# Altium schematic symbol library STM32F4DISCOVERY.SCHLIB: 52 symbols
Pins are listed as number, name and electrical type; pins without a type are passive.

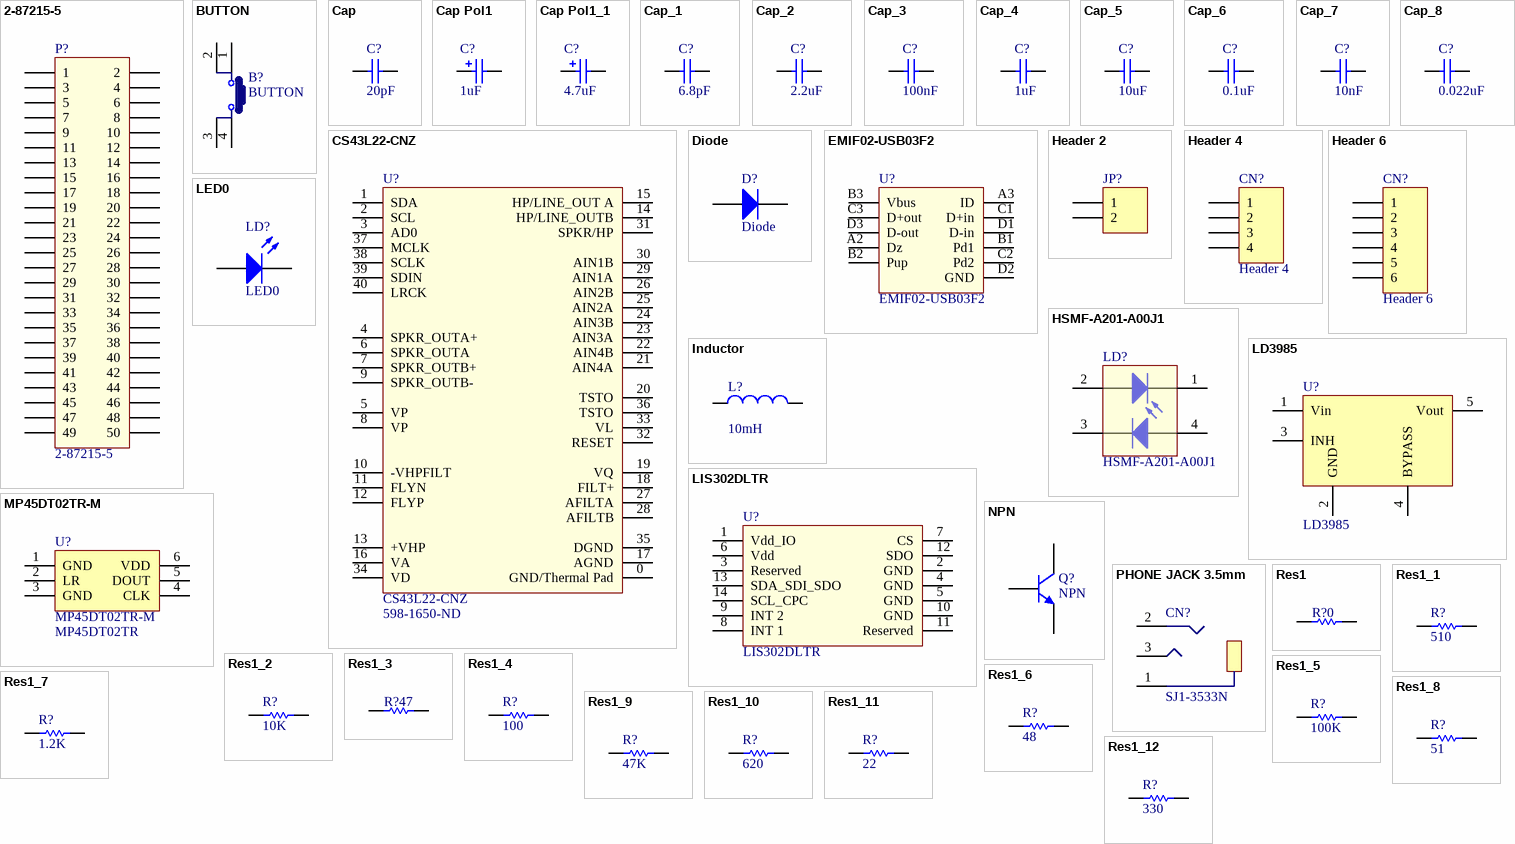
[diagram p0: symbols 2-87215-5 to Res1_12]

## 2-87215-5
designator P?
Manufacturer: TE Connectivity (Tyco Electronics); Catalog Drawings: Dual Square Straight Posts / Dual Straight Posts Side; Featured Product: AMPMODU Connectors; 3D Model: 2-87215-5.pdf; Connector Type: Header, Unshrouded; Number of Positions: 50; Number of Positions Loaded: All; Pitch: 0.100" (2.54mm); Dynamic Catalog: AMPMODU Mod II Series; Mating Products: 2-147424-5-ND / - CONN RCPT 50POS VERT .100 T/H / 2-147104-5-ND / - CONN RCPT 50POS DUAL VERT SMD / 2-146762-6-ND / - CONN RCPT 50POS DL VERT .100 T/H / A32951-ND / - CONN RECEPT 50POS .100 VERT DUAL / 2-147095-5-ND / - CONN RECEPT ASMBLY DBL ROW 50POS / A26470-ND / - CONN RECEPT 50POS .100 VERT DUAL / 2-535542-5-ND / - CONN RECEPT 50POS .100 VERT DUAL / 2-86177-1-ND / - CONN RCPT HSNG 50POS DL CRIMP / A25825-ND / - CONN HOUSING 50POS .100 DUAL ROW / A3045-ND / - CONN HOUSING 50POS .100 DUAL; Other Names: 2-87215-5-ND / A26586; Supplier 1: Digikey; Manufacturer Part Number: 2-87215-5; Stock 1: 100; Pricing 1: 1=16.61, 10=15.422, 25=13.84, 50=13.4448, 100=11.863, 250=11.0721, 500=10.8349, 1000=10.2813 (USD); RoHS Information: 2-87215-5 Statement of Compliance; Standard Package: 100; Category: Connectors, Interconnects; Family: Rectangular Connectors - Headers, Male Pins; Series: AMPMODU Mod II; Contact Type: Male Pin; Number of Rows: 2; Row Spacing: 0.100" (2.54mm); Contact Mating Length: 0.318" (8.08mm); Mounting Type: Through Hole; Termination: Solder; Contact Finish: Gold; Contact Finish Thickness: 30µin (0.76µm); Color: Black; Packaging: Bulk; ComponentLink1URL: https://datasheet.ciiva.com/9478/eng-cs-1307819-section-5-0908-9478390.pdf; ComponentLink1Description: https://datasheet.ciiva.com/9478/eng-cs-1307819-section-5-0908-9478390.pdf; ComponentLink2URL: https://datasheet.ciiva.com/713/eng-cd-87215-j4-713258.pdf; ComponentLink2Description: https://datasheet.ciiva.com/713/eng-cd-87215-j4-713258.pdf
footprint HEADER 25x2
pins: 1, 2, 3, 4, 5, 6, 7, 8, 9, 10, 11, 12, 13, 14, 15, 16, 17, 18, 19, 20, 21, 22, 23, 24, 25, 26, 27, 28, 29, 30, 31, 32, 33, 34, 35, 36, 37, 38, 39, 40, 41, 42, 43, 44, 45, 46, 47, 48, 49, 50

## BUTTON
designator B?
Manufacturer: TE Connectivity (Tyco Electronics); Manufacturer Part Number: 4-1437565-9; Actuator Length: 3.4 mm; Body Orientation: Straight; Actuator Style: Round Button; Electrical Life: 100000 Cycle; Dielectric Strength: 500 VAC; Contact Rating @ Voltage: 0.05@12VDC A; Maximum DC Voltage Rating: 12 V; Illumination Type: N/R; Maximum Contact Resistance: 100 mOhm; Operating Force: 1.57 N; Actuation Force: 1.6 N; Supplier 1: RSComponents; Stock 1: 850; Actuator Color: N/A; Contact Material: Copper Alloy; Base Material: N/A; Family: FSMJSMA; Contact Plating: Silver; Ground Terminal: N/A; Housing Material: N/A; Dimension: 6 x 10 x 7.25 mm; Part No: 4-1437565-9; RoHS: Yes; Maximum AC Voltage Rating: N/A; Seal Description: N/A; Pole Throw Configuration: N/A; Mechanical Life: N/A; Packaging: Bulk; Product Weight: N/A; Mounting: Surface Mount,Gull Wing; Minimum Insulation Resistance: 100 MOhm; Operating Temperature: -20 to 85 C; Type: N/A; Switch Configuration: N/A; Seal Location: N/A; ComponentLink1URL: https://datasheet.ciiva.com/8164/eng-cs-1308111-1-switches-core-program-catalog-0308-8164805.pdf; ComponentLink1Description: https://datasheet.ciiva.com/8164/eng-cs-1308111-1-switches-core-program-catalog-0308-8164805.pdf; ComponentLink2URL: https://datasheet.ciiva.com/8082/eng-cs-1308111-1-switches-core-program-catalog-0308-8082679.pdf; ComponentLink2Description: https://datasheet.ciiva.com/8082/eng-cs-1308111-1-switches-core-program-catalog-0308-8082679.pdf; ComponentLink3URL: https://datasheet.ciiva.com/16535/eng-cs-1308111-1-switches-core-program-catalog-0308-16535272.pdf; ComponentLink3Description: https://datasheet.ciiva.com/16535/eng-cs-1308111-1-switches-core-program-catalog-0308-16535272.pdf; Supplier 2: Mouser; Stock 2: 6488; Pricing 2: 1=0.39, 10=0.381, 50=0.354, 100=0.34, 1000=0.272, 10000=0.204 (USD); Size: 6 x 6 mm; Termination Style: Gull Wing; ComponentLink4URL: https://datasheet.ciiva.com/16156/p010593-16156341.pdf; ComponentLink4Description: https://datasheet.ciiva.com/16156/p010593-16156341.pdf; ComponentLink5URL: https://datasheet.ciiva.com/2900/tl3301-2900813.pdf; ComponentLink5Description: https://datasheet.ciiva.com/2900/tl3301-2900813.pdf; ComponentLink6URL: https://datasheet.ciiva.com/2900/tl3301-2900814.pdf; ComponentLink6Description: https://datasheet.ciiva.com/2900/tl3301-2900814.pdf; ComponentLink7URL: https://datasheet.ciiva.com/2900/tl3301-2900815.pdf; ComponentLink7Description: https://datasheet.ciiva.com/2900/tl3301-2900815.pdf
footprint TL3301PF160QG
pins: 1, 2, 3, 4

## Cap
designator C?  value 20pF  (hidden comment: Cap)
Capacitor; Published: 8-Jun-2000; LatestRevisionDate: 17-Jul-2002; LatestRevisionNote: Re-released for DXP Platform.; PackageReference: RAD-0.3; Publisher: Altium Limited; PackageDescription: Radial Cap, Thru-Hole; 2 Leads; 0.3 in Pin Spacing
simulation model CAP (Capacitor)
signal-integrity model Cap
footprint CAPC0603B (Chip Capacitor, 2-Leads, Body 1.60x0.80mm, IPC Medium Density)
pins: 1, 2

## Cap Pol1
designator C?  value 1uF  (hidden comment: Cap Pol1)
Polarized Capacitor (Radial); Published: 8-Jun-2000; LatestRevisionDate: 17-Jul-2002; LatestRevisionNote: Re-released for DXP Platform.; PackageReference: RB7.6-15; Publisher: Altium Limited; PackageDescription: Polarized Capacitor (Radial); 2 Leads
footprint TANTALUM CASE A_LEVEL B (Molded Capacitor, 2-Leads, Body 3.20x1.60mm, IPC Medium Density)
pins: 1, 2
1 alternate drawing of the same symbol

## Cap Pol1_1
designator C?, comment value 4.7uF  (hidden comment: Cap Pol1)
Polarized Capacitor (Radial); Published: 8-Jun-2000; LatestRevisionDate: 17-Jul-2002; LatestRevisionNote: Re-released for DXP Platform.; PackageReference: RB7.6-15; Publisher: Altium Limited; PackageDescription: Polarized Capacitor (Radial); 2 Leads
footprint TANTALUM CASE A_LEVEL B (Molded Capacitor, 2-Leads, Body 3.20x1.60mm, IPC Medium Density)
pins: 1, 2
1 alternate drawing of the same symbol

## Cap_1
designator C?, comment value 6.8pF  (hidden comment: Cap)
Capacitor; Published: 8-Jun-2000; LatestRevisionDate: 17-Jul-2002; LatestRevisionNote: Re-released for DXP Platform.; PackageReference: RAD-0.3; Publisher: Altium Limited; PackageDescription: Radial Cap, Thru-Hole; 2 Leads; 0.3 in Pin Spacing
simulation model CAP (Capacitor)
signal-integrity model Cap
footprint CAPC0603B (Chip Capacitor, 2-Leads, Body 1.60x0.80mm, IPC Medium Density)
pins: 1, 2

## Cap_2
designator C?, comment value 2.2uF  (hidden comment: Cap)
Capacitor; Published: 8-Jun-2000; LatestRevisionDate: 17-Jul-2002; LatestRevisionNote: Re-released for DXP Platform.; PackageReference: RAD-0.3; Publisher: Altium Limited; PackageDescription: Radial Cap, Thru-Hole; 2 Leads; 0.3 in Pin Spacing
simulation model CAP (Capacitor)
signal-integrity model Cap
footprint CAPC0603B (Chip Capacitor, 2-Leads, Body 1.60x0.80mm, IPC Medium Density)
pins: 1, 2

## Cap_3
designator C?, comment value 100nF  (hidden comment: Cap)
Capacitor; Published: 8-Jun-2000; LatestRevisionDate: 17-Jul-2002; LatestRevisionNote: Re-released for DXP Platform.; PackageReference: RAD-0.3; Publisher: Altium Limited; PackageDescription: Radial Cap, Thru-Hole; 2 Leads; 0.3 in Pin Spacing
simulation model CAP (Capacitor)
signal-integrity model Cap
footprint CAPC0603B (Chip Capacitor, 2-Leads, Body 1.60x0.80mm, IPC Medium Density)
pins: 1, 2

## Cap_4
designator C?, comment value 1uF  (hidden comment: Cap)
Capacitor; Published: 8-Jun-2000; LatestRevisionDate: 17-Jul-2002; LatestRevisionNote: Re-released for DXP Platform.; PackageReference: RAD-0.3; Publisher: Altium Limited; PackageDescription: Radial Cap, Thru-Hole; 2 Leads; 0.3 in Pin Spacing
simulation model CAP (Capacitor)
signal-integrity model Cap
footprint CAPC0603B (Chip Capacitor, 2-Leads, Body 1.60x0.80mm, IPC Medium Density)
pins: 1, 2

## Cap_5
designator C?, comment value 10uF  (hidden comment: Cap)
Capacitor; Published: 8-Jun-2000; LatestRevisionDate: 17-Jul-2002; LatestRevisionNote: Re-released for DXP Platform.; PackageReference: RAD-0.3; Publisher: Altium Limited; PackageDescription: Radial Cap, Thru-Hole; 2 Leads; 0.3 in Pin Spacing
simulation model CAP (Capacitor)
signal-integrity model Cap
footprint CAPC0402B (Chip Capacitor, 2-Leads, Body 1.00x0.50mm, IPC Medium Density)
pins: 1, 2

## Cap_6
designator C?, comment value 0.1uF  (hidden comment: Cap)
Capacitor; Published: 8-Jun-2000; LatestRevisionDate: 17-Jul-2002; LatestRevisionNote: Re-released for DXP Platform.; PackageReference: RAD-0.3; Publisher: Altium Limited; PackageDescription: Radial Cap, Thru-Hole; 2 Leads; 0.3 in Pin Spacing
footprint CAPC0402B (Chip Capacitor, 2-Leads, Body 1.00x0.50mm, IPC Medium Density)
pins: 1, 2

## Cap_7
designator C?, comment value 10nF  (hidden comment: Cap)
Capacitor; Published: 8-Jun-2000; LatestRevisionDate: 17-Jul-2002; LatestRevisionNote: Re-released for DXP Platform.; PackageReference: RAD-0.3; Publisher: Altium Limited; PackageDescription: Radial Cap, Thru-Hole; 2 Leads; 0.3 in Pin Spacing
simulation model CAP (Capacitor)
signal-integrity model Cap
footprint CAPC0402B (Chip Capacitor, 2-Leads, Body 1.00x0.50mm, IPC Medium Density)
pins: 1, 2

## Cap_8
designator C?, comment value 0.022uF  (hidden comment: Cap)
Capacitor; Published: 8-Jun-2000; LatestRevisionDate: 17-Jul-2002; LatestRevisionNote: Re-released for DXP Platform.; PackageReference: RAD-0.3; Publisher: Altium Limited; PackageDescription: Radial Cap, Thru-Hole; 2 Leads; 0.3 in Pin Spacing
simulation model CAP (Capacitor)
signal-integrity model Cap
footprint CAPC0402B (Chip Capacitor, 2-Leads, Body 1.00x0.50mm, IPC Medium Density)
pins: 1, 2

## CS43L22-CNZ
designator U?  Supplier Part Number 1: 598-1650-ND
Manufacturer: Cirrus Logic; PCN Assembly/Origin: Assembly/Test Supplier Transfer 06/Feb/2014 Assembly/Test Site Transfer Jun/2014 Assembly/Test Site Revision 01/Aug/2014; EDA / CAD Models: Download from Accelerated Designs; Resolution (Bits): 24 b; Sampling Rate (Per Second): 96k; Data Interface: I²S; Voltage Supply Source: Analog and Digital; Voltage - Supply: 1.65 V ~ 2.63 V; Online Catalog: Audio, Video; For Use With: 598-1529-ND                                                          - BOARD EVAL FOR CS43L22; Other Names: 598-1650  CS43L22CNZ; Supplier 1: Digikey; Manufacturer Part Number: CS43L22-CNZ; Stock 1: 3643; Pricing 1: 1=5.96, 10=5.325, 25=4.7924, 100=4.3665, 250=3.9405, 500=3.5358, 1000=2.982, 2500=2.8329 (USD); Standard Package: 50; Category: Integrated Circuits (ICs); Family: Data Acquisition - ADCs/DACs - Special Purpose; Series: -; Packaging: Tray; Type: DAC, Audio; Operating Temperature: -40°C ~ 85°C; Mounting Type: Surface Mount; Package / Case: 40-VFQFN Exposed Pad; Supplier Device Package: 40-QFN (6x6); ComponentLink1URL: https://datasheet.ciiva.com/1494/91818-1494314.pdf; ComponentLink1Description: https://datasheet.ciiva.com/1494/91818-1494314.pdf; ComponentLink2URL: https://datasheet.ciiva.com/6665/cs43l22-f2-6665692.pdf; ComponentLink2Description: https://datasheet.ciiva.com/6665/cs43l22-f2-6665692.pdf; ComponentLink3URL: https://datasheet.ciiva.com/3040/cs43l22-f2-3040429.pdf; ComponentLink3Description: https://datasheet.ciiva.com/3040/cs43l22-f2-3040429.pdf; ComponentLink4URL: https://datasheet.ciiva.com/16606/cs43l22-f2-16606863.pdf; ComponentLink4Description: https://datasheet.ciiva.com/16606/cs43l22-f2-16606863.pdf; ComponentLink5URL: https://datasheet.ciiva.com/26802/cs43l22-cnz-26802243.pdf; ComponentLink5Description: https://datasheet.ciiva.com/26802/cs43l22-cnz-26802243.pdf
footprint 40QFN (PQFN, 40-Leads, Body 6.00x6.00mm, Pitch 0.50mm, Thermal Pad 4.10x4.10mm, IPC Medium Density)
pins: 0 GND/Thermal Pad, 1 SDA, 2 SCL, 3 AD0, 4 SPKR_OUTA+, 5 VP, 6 SPKR_OUTA, 7 SPKR_OUTB+, 8 VP, 9 SPKR_OUTB-, 10 -VHPFILT, 11 FLYN, 12 FLYP, 13 +VHP, 14 HP/LINE_OUTB, 15 HP/LINE_OUT A, 16 VA, 17 AGND, 18 FILT+, 19 VQ, 20 TSTO, 21 AIN4A, 22 AIN4B, 23 AIN3A, 24 AIN3B, 25 AIN2A, 26 AIN2B, 27 AFILTA, 28 AFILTB, 29 AIN1A, 30 AIN1B, 31 SPKR/HP, 32 RESET, 33 VL, 34 VD, 35 DGND, 36 TSTO, 37 MCLK, 38 SCLK, 39 SDIN, 40 LRCK

## Diode
designator D?
Default Diode; Published: 8-Jun-2000; LatestRevisionDate: 17-Jul-2002; LatestRevisionNote: Re-released for DXP Platform.; PackageVersion: Sep-1996; PackageReference: SMC; Publisher: Altium Limited; PackageDescription: DO-214-AB/SMC; 2 C-Bend Leads; Body 7.9 x 5.9 mm, inc. leads (LxW); Code_JEDEC: DO-214-AB
footprint SOD-323
simulation model DIODE (Diode)
signal-integrity model Diode
pins: 1 A, 2 K

## EMIF02-USB03F2
designator U?
Manufacturer: STMicroelectronics; Other Related Documents: EMIF02-USB03F2 View All Specifications; Number of Channels: 2; Resistance - Channel (Ohms): 33; Values: R = 33 Ohms, C = 20pF; ESD Protection: Yes; Filter Order: 2nd; Online Catalog: IPAD™ Series; Other Names: 497-13521-2 EMIF02USB03F2; Supplier 1: Digikey; Manufacturer Part Number: EMIF02-USB03F2; Stock 1: 5836; Pricing 1: 1=0.68, 10=0.644, 100=0.4574, 500=0.395, 1000=0.3534 (USD); Standard Package: 5,000; Category: Filters; Family: EMI/RFI Filters (LC, RC Networks); Series: EMIF; Packaging: Tape & Reel (TR); Type: Low Pass; Technology: RC (Pi); Center / Cutoff Frequency: -; Attenuation Value: -; Current: -; Applications: USB; Package / Case: 11-WFBGA, FCBGA; Size / Dimension: 0.076" L x 0.057" W (1.94mm x 1.44mm); Height: 0.028" (0.72mm); Operating Temperature: -40°C ~ 85°C; ComponentLink1URL: https://datasheet.ciiva.com/3068/cd00042880-3068450.pdf; ComponentLink1Description: https://datasheet.ciiva.com/3068/cd00042880-3068450.pdf; ComponentLink2URL: https://datasheet.ciiva.com/12394/cd00042880-211729-12394966.pdf; ComponentLink2Description: https://datasheet.ciiva.com/12394/cd00042880-211729-12394966.pdf; ComponentLink3URL: https://datasheet.ciiva.com/16633/cd00042880-16633017.pdf; ComponentLink3Description: https://datasheet.ciiva.com/16633/cd00042880-16633017.pdf
footprint EMIF02-USB03F2 (EMIF02-USB03F2 footprint)
pins: A2 Dz, A3 ID, B1 Pd1, B2 Pup, B3 Vbus, C1 D+in, C2 Pd2, C3 D+out, D1 D-in, D2 GND, D3 D-out

## Header 2
designator JP?  (value not drawn)
Header, 2-Pin; LatestRevisionDate: 17-Jul-2002; LatestRevisionNote: Re-released for DXP Platform.; Publisher: Altium Limited
footprint HDR1X2 (Connector; Header; 2 Position)
signal-integrity model Connector
pins: 1, 2

## Header 4
designator CN?
Header, 4-Pin; LatestRevisionDate: 17-Jul-2002; LatestRevisionNote: Re-released for DXP Platform.; Publisher: Altium Limited
footprint HDR1X4 (Connector; Header; 4 Position)
signal-integrity model Connector
pins: 1, 2, 3, 4

## Header 6
designator CN?
Header, 6-Pin; LatestRevisionDate: 17-Jul-2002; LatestRevisionNote: Re-released for DXP Platform.; Publisher: Altium Limited
footprint HDR1X6 (Connector; Header; 6 Position)
signal-integrity model Connector
pins: 1, 2, 3, 4, 5, 6

## HSMF-A201-A00J1
designator LD?
Manufacturer: Broadcom / Avago Technologies; Chip Material: GaP; DELETED: Compliant; Emitting Color: Red/Yellow Green; Forward Voltage: 2.6 V; Forward Current: 30/20 mA; Dominant Wave Length: 626/569 nm; Lum Intensity: 16/20mcd; High Brightness: No; Number of  Elements: 2; Main Category: Chip LED; Power Dissipation: 78/48 W; Peak Wavelength: 635/565 nm; Shape Type: Circular; Type: Bi-Color; Reverse Voltage: 5 V; Viewing Angle: 120 deg; Test Current (It): 20 mA; Product Depth (mm): 3.2 mm; Product Height (mm): 1.8 mm; Product Length (mm): 2.8 mm; Supplier 1: Digikey; Manufacturer Part Number: HSMF-A201-A00J1; Stock 1: 460; Pricing 1: 1=0.61, 10=0.472, 25=0.3932, 100=0.3388, 250=0.3025, 500=0.2602, 1000=0.2009 (USD); Mounting: Surface Mount; Operating Temp Range: -55C to 100C; Lens Dimensions: 2.2x2.2x0.8 mm; Luminous Intensity: 16/20mcd; Package Type: PLCC; Packaging: Tape and Reel; Pin Count: 4; Operating Temperature Classification: Industrial; Rad Hardened: No; ComponentLink1URL: https://datasheet.ciiva.com/29280/180547-da-01-en-plcc-4-led-hsmf-a201-a00j1-gelb-gruen-29280722.pdf; ComponentLink1Description: https://datasheet.ciiva.com/29280/180547-da-01-en-plcc-4-led-hsmf-a201-a00j1-gelb-gruen-29280722.pdf; ComponentLink2URL: https://datasheet.ciiva.com/11775/0900766b804ebe6b-11775846.pdf; ComponentLink2Description: https://datasheet.ciiva.com/11775/0900766b804ebe6b-11775846.pdf; ComponentLink3URL: https://datasheet.ciiva.com/4688/v02-0501en+ds+hsmx-a2xx+02feb2012-107193-4688327.pdf; ComponentLink3Description: https://datasheet.ciiva.com/4688/v02-0501en+ds+hsmx-a2xx+02feb2012-107193-4688327.pdf; ComponentLink4URL: https://datasheet.ciiva.com/15117/getdatasheetpartid-135296-15117690.pdf; ComponentLink4Description: https://datasheet.ciiva.com/15117/getdatasheetpartid-135296-15117690.pdf
footprint HSMF-A201-A00J1
pins: 1 A, 1 A, 1, 2 K, 2 K, 2, 3, 4

## Inductor
designator L?  value 10mH  (hidden comment: Inductor)
Code_IEC: 1005; Published: 8-Jun-2000; LatestRevisionDate: 29-May-2009; LatestRevisionNote: IPC-7351 Footprint Added.; PackageReference: 0402-A; Publisher: Altium Limited; PackageDescription: Chip Inductor; Code_JEITA: 0402
footprint 0402-A (Chip Inductor, Body 1.0x0.5mm, IPC High Density)
footprint INDC1608L (Chip Inductor, Body 1.6x0.8mm, IPC High Density)
footprint 2029 (Chip Inductor, Body 2.0x1.2mm, IPC High Density)
footprint 0603 (Chip Inductor, Body 0.6x0.3mm, IPC High Density)
footprint INDC3216 (Chip Inductor, Body 3.2x1.6mm, IPC High Density)
footprint INDC4532 (Chip Inductor, Body 4.5x3.2mm, IPC High Density)
simulation model INDUCTOR (Inductor)
signal-integrity model Inductor
pins: 1, 2

## LD3985
designator U?
Manufacturer: STMicroelectronics; Manufacturer Part Number: LD3985G33R; Other Related Documents: LD3985XX33 View All Specifications LD3985XX33 View All Specifications; EDA / CAD Models: Download from Accelerated Designs; Regulator Topology: Positive Fixed; Voltage - Output: 3.3V; Current - Output: 150mA; Voltage - Dropout (Typical): 0.06V @ 150mA; Number of Regulators: 1; Voltage - Input: Up to 6V; Current - Limit (Min): 300mA; Other Names: 497-7793-6; Supplier 1: Digikey; Stock 1: 937; Pricing 1: 1=0.65, 10=0.574, 100=0.4404, 500=0.3481 (USD); Standard Package: 1; Category: Integrated Circuits (ICs); Family: PMIC - Voltage Regulators - Linear; Series: -; Packaging: Digi-Reel®; Operating Temperature: -40°C ~ 125°C; Mounting Type: Surface Mount; Package / Case: SOT-23-5 Thin, TSOT-23-5; Supplier Device Package: TSOT-23-5; ComponentLink1URL: https://datasheet.ciiva.com/2053/cd00003395-2053393.pdf; ComponentLink1Description: https://datasheet.ciiva.com/2053/cd00003395-2053393.pdf; ComponentLink2URL: https://datasheet.ciiva.com/2053/cd00003395-2053394.pdf; ComponentLink2Description: https://datasheet.ciiva.com/2053/cd00003395-2053394.pdf; ComponentLink3URL: https://datasheet.ciiva.com/2053/cd00003395-2053395.pdf; ComponentLink3Description: https://datasheet.ciiva.com/2053/cd00003395-2053395.pdf
footprint TSOT-23-5
pins: 1 Vin, 2 GND, 3 INH, 4 BYPASS, 5 Vout

## LED0
designator LD?
Typical INFRARED GaAs LED; Published: 8-Jun-2000; LatestRevisionDate: 08-Jul-2005; LatestRevisionNote: Mech Layer 1 removed.; PackageReference: LED-0; Publisher: Altium Limited; PackageDescription: LED; 2 Leads
simulation model LED0 (Diode)
footprint LED_0603
pins: 1 A, 2 K

## LIS302DLTR
designator U?
Manufacturer: STMicroelectronics; Other Related Documents: LIS302DL View All Specifications; EDA / CAD Models: Download from Accelerated Designs; Axis: X, Y, Z; Acceleration Range: ±2.3g, 9.2g; Sensitivity: 18mg/digit, 72mg/digit; Voltage - Supply: 2.16 V ~ 3.6 V; Output Type: Digital; Bandwidth: 100Hz ~ 400Hz Selectable; Interface: I²C, SPI; Online Catalog: MEMS "piccolo" LIS302DL, LIS352AR and LIS352AX; For Use With: 497-6342-ND  - BOARD EVALUATION FOR LIS302DL 497-6227-ND  - BOARD ADAPTER 20DIP LIS3LV02DL 497-8204-ND  - BOARD ADAPTER LIS302SG DIL24 497-8373-ND  - BOARD EVAL EXTENSION SN250 497-6226-ND  - BOARD EVAL ACCELEROM LIS3LV02DL 497-6246-ND  - BOARD EVAL ACCELEROM LIS302ALK 497-8203-ND  - BOARD DEMO LIS302SG 497-9047-ND  - BOARD DEMO ACCELEROMETER DIL24; Other Names: 497-5911-2; Supplier 1: Digikey; Manufacturer Part Number: LIS302DLTR; Stock 1: 0; Pricing 1: 1=2.99, 10=2.682, 100=2.1973, 500=1.8705 (USD); Standard Package: 5,000; Category: Sensors, Transducers; Family: Accelerometers; Series: MEMS, piccolo; Packaging: Tape & Reel (TR); Mounting Type: Surface Mount; Package / Case: 14-VFLGA; Supplier Device Package: 14-LGA (3x5); ComponentLink1URL: https://datasheet.ciiva.com/2809/cd00135460-2809829.pdf; ComponentLink1Description: https://datasheet.ciiva.com/2809/cd00135460-2809829.pdf; ComponentLink2URL: https://datasheet.ciiva.com/5296/cd00135460-98938-5296661.pdf; ComponentLink2Description: https://datasheet.ciiva.com/5296/cd00135460-98938-5296661.pdf; ComponentLink3URL: https://datasheet.ciiva.com/2809/cd00135460-2809830.pdf; ComponentLink3Description: https://datasheet.ciiva.com/2809/cd00135460-2809830.pdf; ComponentLink4URL: https://datasheet.ciiva.com/2809/cd00135460-2809831.pdf; ComponentLink4Description: https://datasheet.ciiva.com/2809/cd00135460-2809831.pdf; ComponentLink5URL: https://datasheet.ciiva.com/3271/cd00135460-3271564.pdf; ComponentLink5Description: https://datasheet.ciiva.com/3271/cd00135460-3271564.pdf; ComponentLink6URL: https://datasheet.ciiva.com/26928/lis302dltr-26928596.pdf; ComponentLink6Description: https://datasheet.ciiva.com/26928/lis302dltr-26928596.pdf
footprint LIS302DLTR
pins: 1 Vdd_IO, 2 GND, 3 Reserved, 4 GND, 5 GND, 6 Vdd, 7 CS, 8 INT 1, 9 INT 2, 10 GND, 11 Reserved, 12 SDO, 13 SDA_SDI_SDO, 14 SCL_CPC

## MP45DT02TR-M
designator U?  Supplier Part Number 1: MP45DT02TR
Manufacturer: STMicroelectronics; Other Related Documents: MP45DT02 View All Specifications; Product Training Modules: Digital MEMS Microphones – Part 2; Output Type: Digital, PDM; Direction: Omnidirectional; Frequency Range: 100Hz ~ 10kHz; Sensitivity: -26dB ±3dB @ 94dB SPL; S/N Ratio: 61dB; Voltage - Rated: 1.64 ~ 3.6V; Current - Supply: 650µA; Port Location: Top; Seal Rating: None; Shape: Rectangular; Online Catalog: MP Series; For Use With: 497-13608-ND / - BOARD EVAL FOR MP45DT02 / 497-13324-ND / - BOARD EVAL MEMS MIC MP45DT02 / 497-14895-ND / - EVAL BOARD MEMS MIC MP45DT02 / 497-13230-ND / - BOARD EVAL MEMS MIC MP45DT02; Other Names: 497-11921-1; Supplier 1: Arrow; Manufacturer Part Number: MP45DT02TR; Stock 1: 4000; Pricing 1: 1=0.778 (EUR); Standard Package: 1; Category: Audio Products; Family: Microphones; Packaging: Cut Tape (CT); Type: MEMS (Silicon); Termination: Solder Pads; Size / Dimension: 4.72mm L x 3.76mm W; Height (Max): 1.38mm; ComponentLink1URL: https://datasheet.ciiva.com/2/dm00025467-2000.pdf; ComponentLink1Description: https://datasheet.ciiva.com/2/dm00025467-2000.pdf; ComponentLink2URL: https://datasheet.ciiva.com/2/dm00025467-2001.pdf; ComponentLink2Description: https://datasheet.ciiva.com/2/dm00025467-2001.pdf; ComponentLink3URL: https://datasheet.ciiva.com/16214/dm00025467-16214947.pdf; ComponentLink3Description: https://datasheet.ciiva.com/16214/dm00025467-16214947.pdf; ComponentLink4URL: https://datasheet.ciiva.com/16636/dm00025467-16636155.pdf; ComponentLink4Description: https://datasheet.ciiva.com/16636/dm00025467-16636155.pdf; ComponentLink5URL: https://datasheet.ciiva.com/1/dm00025467-1999.pdf; ComponentLink5Description: https://datasheet.ciiva.com/1/dm00025467-1999.pdf; ComponentLink6URL: https://datasheet.ciiva.com/12072/dm00025467-12072527.pdf; ComponentLink6Description: https://datasheet.ciiva.com/12072/dm00025467-12072527.pdf
footprint MP45DT02TR-M
pins: 1 GND, 2 LR, 3 GND, 4 CLK, 5 DOUT, 6 VDD

## NPN
designator Q?
NPN Bipolar Transistor; Published: 8-Jun-2000; LatestRevisionDate: 17-Jul-2002; LatestRevisionNote: Re-released for DXP Platform.; PackageReference: TO-226-AA; Publisher: Altium Limited; PackageDescription: TO, Flat Index; 3 In-Line, Axial Leads; Body Dia. 4.8mm; Leads 0.55 x 0.51 mm (max); Code_JEDEC: TO-226-AA
footprint SOT-23 (SOTFL, 3-Leads, Body 1.60x1.60mm, Pitch 0.50mm, IPC Medium Density)
pins: 1 C, 2 B, 3 E

## PHONE JACK 3.5mm
designator CN?, comment SJ1-3533N
3.50mm (0.141", 1/8", Mini Plug) - Headphone Phone Jack Stereo Connector Solder; Manufacturer: CUI; Gender: Female; Actual Diameter: 0.142" (3.60mm); Number of Positions/Contacts: 3 Conductors, 3 Contacts; Internal Switch(s): Does Not Contain Switch; Shielding: Unshielded; Voltage - Rated: 12VDC; Current Rating: 1A; Mating Length/Depth: 0.551" (14.00mm); Body Material: Brass; Body Color: Silver, Black; Includes: 1 pc - 1 Connector; Supplier 1: Digikey; Manufacturer Part Number: SJ1-3533N; Stock 1: 8782; Pricing 1: 1=1.22, 10=1.076, 25=1.0128, 50=0.9706, 100=0.9284, 250=0.844, 500=0.7596, 1000=0.6752, 2500=0.6119 (USD); Category: Connectors, Interconnects; Family: Barrel - Audio Connectors; Series: SJ1; Packaging: Bulk; Connector Type: Phone Jack; Signal Lines: Stereo; Industry Recognized Mating Diameter: 3.50mm (0.141", 1/8", Mini Plug) - Headphone; Mounting Type: Through Hole, Right Angle; Termination: Solder; Features: -; Insulation Color: -; Contact Material - Plating: Tin; ComponentLink1URL: https://datasheet.ciiva.com/16381/sj1-353xn-series-16381818.pdf; ComponentLink1Description: https://datasheet.ciiva.com/16381/sj1-353xn-series-16381818.pdf
footprint SJ1-3533N (3.50mm (0.141", 1/8", Mini Plug) - Headphone Phone Jack Stereo Connector Solder)
pins: 1, 2, 3

## Res1
designator R?  value 0  (hidden comment: Res1)
Resistor; Published: 8-Jun-2000; LatestRevisionDate: 17-Jul-2002; LatestRevisionNote: Re-released for DXP Platform.; PackageReference: AXIAL-0.3; Publisher: Altium Limited; PackageDescription: Axial Device, Thru-Hole; 2 Leads; 0.3 in Pin Spacing
simulation model RESISTOR (Resistor)
signal-integrity model Res
footprint RESC0603B (Chip Resistor, 2-Leads, Body 1.60x0.82mm, IPC Medium Density)
pins: 1, 2

## Res1_1
designator R?, comment value 510  (hidden comment: Res1)
Resistor; Published: 8-Jun-2000; LatestRevisionDate: 17-Jul-2002; LatestRevisionNote: Re-released for DXP Platform.; PackageReference: AXIAL-0.3; Publisher: Altium Limited; PackageDescription: Axial Device, Thru-Hole; 2 Leads; 0.3 in Pin Spacing
simulation model RESISTOR (Resistor)
signal-integrity model Res
footprint RESC0603B (Chip Resistor, 2-Leads, Body 1.60x0.82mm, IPC Medium Density)
pins: 1, 2

## Res1_2
designator R?, comment value 10K  (hidden comment: Res1)
Resistor; Published: 8-Jun-2000; LatestRevisionDate: 17-Jul-2002; LatestRevisionNote: Re-released for DXP Platform.; PackageReference: AXIAL-0.3; Publisher: Altium Limited; PackageDescription: Axial Device, Thru-Hole; 2 Leads; 0.3 in Pin Spacing
simulation model RESISTOR (Resistor)
signal-integrity model Res
footprint RESC0603B (Chip Resistor, 2-Leads, Body 1.60x0.82mm, IPC Medium Density)
pins: 1, 2

## Res1_3
designator R?, comment value 47  (hidden comment: Res1)
Resistor; Published: 8-Jun-2000; LatestRevisionDate: 17-Jul-2002; LatestRevisionNote: Re-released for DXP Platform.; PackageReference: AXIAL-0.3; Publisher: Altium Limited; PackageDescription: Axial Device, Thru-Hole; 2 Leads; 0.3 in Pin Spacing
simulation model RESISTOR (Resistor)
signal-integrity model Res
footprint RESC0603B (Chip Resistor, 2-Leads, Body 1.60x0.82mm, IPC Medium Density)
pins: 1, 2

## Res1_4
designator R?, comment value 100  (hidden comment: Res1)
Resistor; Published: 8-Jun-2000; LatestRevisionDate: 17-Jul-2002; LatestRevisionNote: Re-released for DXP Platform.; PackageReference: AXIAL-0.3; Publisher: Altium Limited; PackageDescription: Axial Device, Thru-Hole; 2 Leads; 0.3 in Pin Spacing
simulation model RESISTOR (Resistor)
signal-integrity model Res
footprint RESC0402B
pins: 1, 2

## Res1_5
designator R?, comment value 100K  (hidden comment: Res1)
Resistor; Published: 8-Jun-2000; LatestRevisionDate: 17-Jul-2002; LatestRevisionNote: Re-released for DXP Platform.; PackageReference: AXIAL-0.3; Publisher: Altium Limited; PackageDescription: Axial Device, Thru-Hole; 2 Leads; 0.3 in Pin Spacing
simulation model RESISTOR (Resistor)
signal-integrity model Res
footprint RESC0402B
pins: 1, 2

## Res1_6
designator R?, comment value 48  (hidden comment: Res1)
Resistor; Published: 8-Jun-2000; LatestRevisionDate: 17-Jul-2002; LatestRevisionNote: Re-released for DXP Platform.; PackageReference: AXIAL-0.3; Publisher: Altium Limited; PackageDescription: Axial Device, Thru-Hole; 2 Leads; 0.3 in Pin Spacing
simulation model RESISTOR (Resistor)
signal-integrity model Res
footprint RESC0402B
pins: 1, 2

## Res1_7
designator R?, comment value 1.2K  (hidden comment: Res1)
Resistor; Published: 8-Jun-2000; LatestRevisionDate: 17-Jul-2002; LatestRevisionNote: Re-released for DXP Platform.; PackageReference: AXIAL-0.3; Publisher: Altium Limited; PackageDescription: Axial Device, Thru-Hole; 2 Leads; 0.3 in Pin Spacing
footprint RESC0402B
pins: 1, 2

## Res1_8
designator R?, comment value 51  (hidden comment: Res1)
Resistor; Published: 8-Jun-2000; LatestRevisionDate: 17-Jul-2002; LatestRevisionNote: Re-released for DXP Platform.; PackageReference: AXIAL-0.3; Publisher: Altium Limited; PackageDescription: Axial Device, Thru-Hole; 2 Leads; 0.3 in Pin Spacing
simulation model RESISTOR (Resistor)
signal-integrity model Res
footprint RESC0402B
pins: 1, 2

## Res1_9
designator R?, comment value 47K  (hidden comment: Res1)
Resistor; Published: 8-Jun-2000; LatestRevisionDate: 17-Jul-2002; LatestRevisionNote: Re-released for DXP Platform.; PackageReference: AXIAL-0.3; Publisher: Altium Limited; PackageDescription: Axial Device, Thru-Hole; 2 Leads; 0.3 in Pin Spacing
simulation model RESISTOR (Resistor)
signal-integrity model Res
footprint RESC0402B
pins: 1, 2

## Res1_10
designator R?, comment value 620  (hidden comment: Res1)
Resistor; Published: 8-Jun-2000; LatestRevisionDate: 17-Jul-2002; LatestRevisionNote: Re-released for DXP Platform.; PackageReference: AXIAL-0.3; Publisher: Altium Limited; PackageDescription: Axial Device, Thru-Hole; 2 Leads; 0.3 in Pin Spacing
simulation model RESISTOR (Resistor)
signal-integrity model Res
footprint RESC0402B
pins: 1, 2

## Res1_11
designator R?, comment value 22  (hidden comment: Res1)
Resistor; Published: 8-Jun-2000; LatestRevisionDate: 17-Jul-2002; LatestRevisionNote: Re-released for DXP Platform.; PackageReference: AXIAL-0.3; Publisher: Altium Limited; PackageDescription: Axial Device, Thru-Hole; 2 Leads; 0.3 in Pin Spacing
simulation model RESISTOR (Resistor)
signal-integrity model Res
footprint RESC0402B
pins: 1, 2

## Res1_12
designator R?, comment value 330  (hidden comment: Res1)
Resistor; Published: 8-Jun-2000; LatestRevisionDate: 17-Jul-2002; LatestRevisionNote: Re-released for DXP Platform.; PackageReference: AXIAL-0.3; Publisher: Altium Limited; PackageDescription: Axial Device, Thru-Hole; 2 Leads; 0.3 in Pin Spacing
simulation model RESISTOR (Resistor)
signal-integrity model Res
footprint RESC0402B
pins: 1, 2

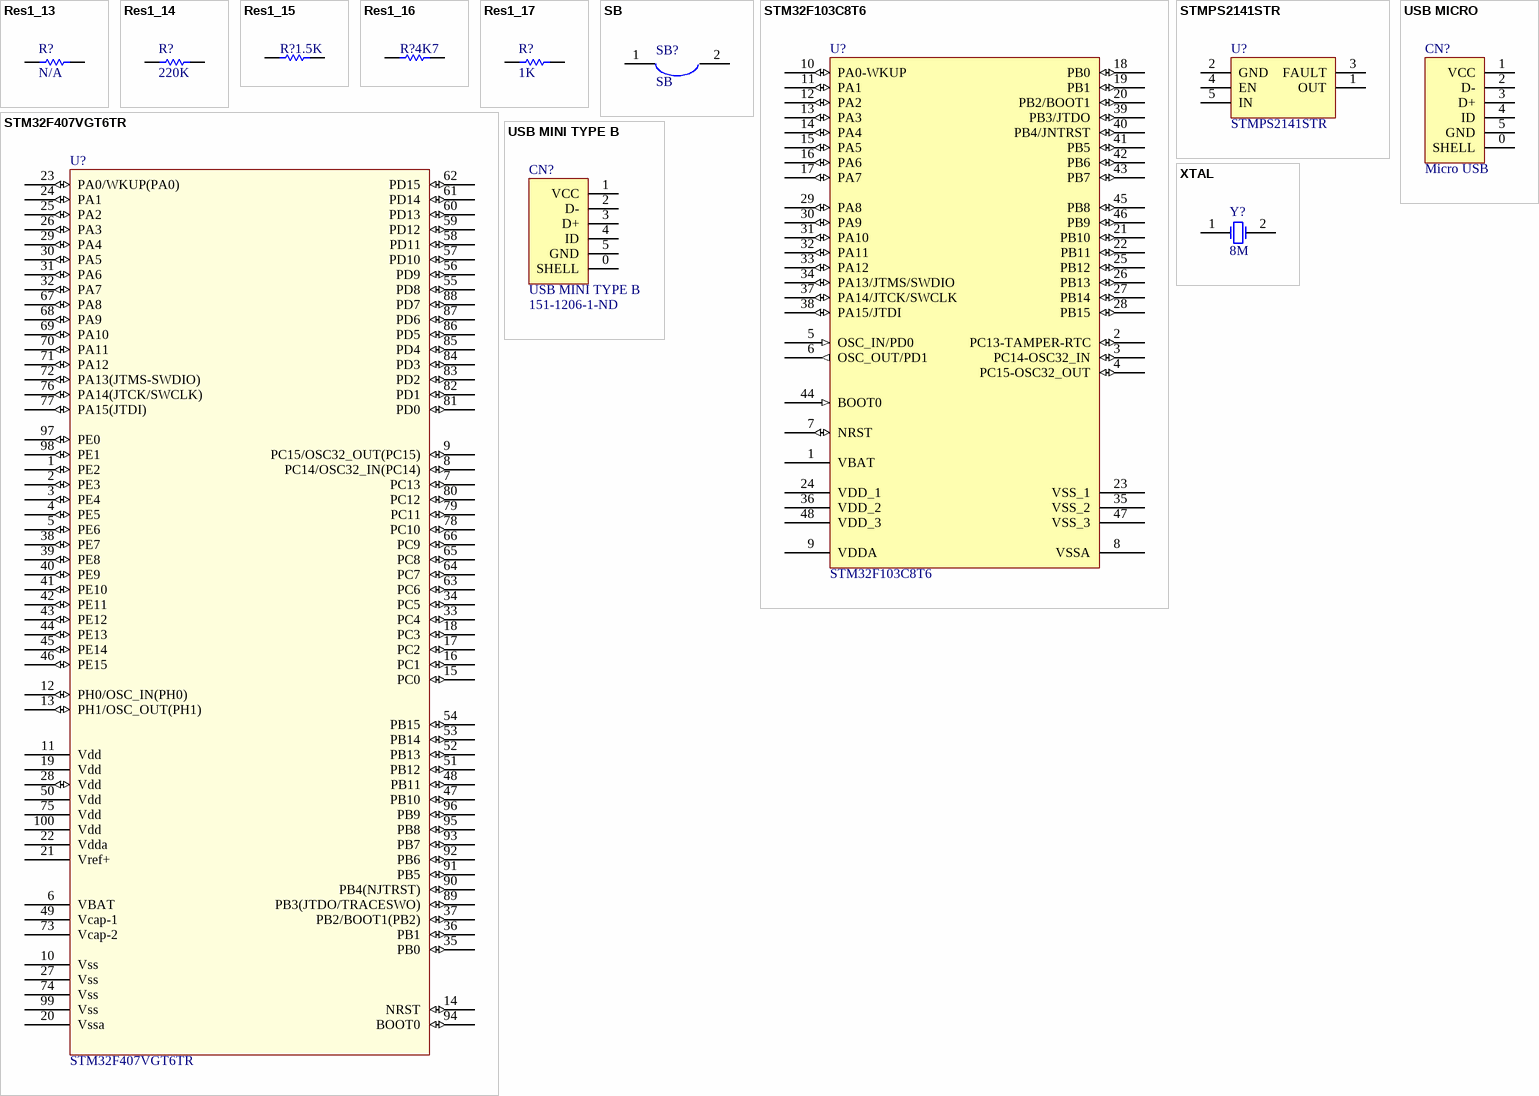
[diagram p1: symbols Res1_13 to XTAL]

## Res1_13
designator R?, comment Res1  (value not drawn)
Resistor; Published: 8-Jun-2000; LatestRevisionDate: 17-Jul-2002; LatestRevisionNote: Re-released for DXP Platform.; PackageReference: AXIAL-0.3; Publisher: Altium Limited; PackageDescription: Axial Device, Thru-Hole; 2 Leads; 0.3 in Pin Spacing; Value: N/A
simulation model RESISTOR (Resistor)
signal-integrity model Res
footprint RESC0402B
pins: 1, 2

## Res1_14
designator R?, comment value 220K  (hidden comment: Res1)
Resistor; Published: 8-Jun-2000; LatestRevisionDate: 17-Jul-2002; LatestRevisionNote: Re-released for DXP Platform.; PackageReference: AXIAL-0.3; Publisher: Altium Limited; PackageDescription: Axial Device, Thru-Hole; 2 Leads; 0.3 in Pin Spacing
simulation model RESISTOR (Resistor)
signal-integrity model Res
footprint RESC0603B (Chip Resistor, 2-Leads, Body 1.60x0.82mm, IPC Medium Density)
pins: 1, 2

## Res1_15
designator R?, comment value 1.5K  (hidden comment: Res1)
Resistor; Published: 8-Jun-2000; LatestRevisionDate: 17-Jul-2002; LatestRevisionNote: Re-released for DXP Platform.; PackageReference: AXIAL-0.3; Publisher: Altium Limited; PackageDescription: Axial Device, Thru-Hole; 2 Leads; 0.3 in Pin Spacing
simulation model RESISTOR (Resistor)
signal-integrity model Res
footprint RESC0402B
pins: 1, 2

## Res1_16
designator R?, comment value 4K7  (hidden comment: Res1)
Resistor; Published: 8-Jun-2000; LatestRevisionDate: 17-Jul-2002; LatestRevisionNote: Re-released for DXP Platform.; PackageReference: AXIAL-0.3; Publisher: Altium Limited; PackageDescription: Axial Device, Thru-Hole; 2 Leads; 0.3 in Pin Spacing
simulation model RESISTOR (Resistor)
signal-integrity model Res
footprint RESC0402B
pins: 1, 2

## Res1_17
designator R?, comment value 1K  (hidden comment: Res1)
Resistor; Published: 8-Jun-2000; LatestRevisionDate: 17-Jul-2002; LatestRevisionNote: Re-released for DXP Platform.; PackageReference: AXIAL-0.3; Publisher: Altium Limited; PackageDescription: Axial Device, Thru-Hole; 2 Leads; 0.3 in Pin Spacing
simulation model RESISTOR (Resistor)
signal-integrity model Res
footprint RESC0402B
pins: 1, 2

## SB
designator SB?
footprint SB
pins: 1, 2

## STM32F103C8T6
designator U?
STM32 ARM-based 32-bit MCU with 64 Kbytes Flash, 48-pin LQFP, Industrial Temperature; Published: 30-May-2008; DatasheetVersion: rev6, Mar-2008; PackageVersion: Mar-2008; PackageReference: LQFP48; Publisher: Altium Limited; PackageDescription: 48-Pin Low-Profile Quad Flat Pack, 7 x 7 mm Body, 0.5 mm Pitch (LQFP48); ComponentLink1Description: Manufacturer Link; ComponentLink1URL: www.st.com/stm32; ComponentLink2Description: Datasheet; ComponentLink2URL: http://www.st.com/stonline/products/literature/ds/13587.pdf
footprint LQFP48_N (Thin QFP, 48-Leads, Body 7x7mm, Pitch 0.5mm, IPC Medium Density)
footprint LQFP48_L (Thin QFP, 48-Leads, Body 7x7mm, Pitch 0.5mm, IPC High Density)
footprint LQFP48_M (Thin QFP, 48-Leads, Body 7x7mm, Pitch 0.5mm, IPC Low Density)
pins: 1 VBAT (power), 2 PC13-TAMPER-RTC (io), 3 PC14-OSC32_IN (io), 4 PC15-OSC32_OUT (io), 5 OSC_IN/PD0 (in), 6 OSC_OUT/PD1 (out), 7 NRST (io), 8 VSSA (power), 9 VDDA (power), 10 PA0-WKUP (io), 11 PA1 (io), 12 PA2 (io), 13 PA3 (io), 14 PA4 (io), 15 PA5 (io), 16 PA6 (io), 17 PA7 (io), 18 PB0 (io), 19 PB1 (io), 20 PB2/BOOT1 (io), 21 PB10 (io), 22 PB11 (io), 23 VSS_1 (power), 24 VDD_1 (power), 25 PB12 (io), 26 PB13 (io), 27 PB14 (io), 28 PB15 (io), 29 PA8 (io), 30 PA9 (io), 31 PA10 (io), 32 PA11 (io), 33 PA12 (io), 34 PA13/JTMS/SWDIO (io), 35 VSS_2 (power), 36 VDD_2 (power), 37 PA14/JTCK/SWCLK (io), 38 PA15/JTDI (io), 39 PB3/JTDO (io), 40 PB4/JNTRST (io), 41 PB5 (io), 42 PB6 (io), 43 PB7 (io), 44 BOOT0 (in), 45 PB8 (io), 46 PB9 (io), 47 VSS_3 (power), 48 VDD_3 (power)

## STM32F407VGT6TR
designator U?
STMICROELECTRONICS - STM32F407VGT6TR - MCU, 32BIT, CORTEX-M4, 168MHZ, LQFP-100; Architecture: ARM Cortex-M4; CPU Speed: 168; Program Memory Size: 1; RAM Memory Size: 192; No. of Pins: 100; MCU Case Style: LQFP; No. of I/O's: 82; Embedded Interface Type: CAN, I2; Supply Voltage Min: 1.8; Supply Voltage Max: 3.6; Product Range: STM32 F4 ARM Cortex-M4 Microcontrollers; SVHC: No SVHC (17-Dec-2015); Controller Family/Series: STM32; MPU Core Size: 32; Peripherals: ADC, DAC, RTC; Supplier 1: Farnell; Manufacturer: STMICROELECTRONICS; Manufacturer Part Number: STM32F407VGT6TR; RoHS: YES; Stock 1: 521; Pricing 1: 1=9.65, 10=8.36, 25=8.02, 50=7.59, 100=7.06, 250=6.62, 500=6.19, 1000=5.76 (GBP); Packaging: Cut Tape; Automotive Qualification Standard: -; MSL: MSL 3 - 168 hours; Operating Temperature Max: 85; Operating Temperature Min: -40; ComponentLink1URL: http://www.farnell.com/datasheets/1994630.pdf; ComponentLink1Description: http://www.farnell.com/datasheets/1994630.pdf; ComponentLink2URL: http://www.farnell.com/datasheets/2042748.pdf; ComponentLink2Description: http://www.farnell.com/datasheets/2042748.pdf; Supplier Part Number 1: 2333297
footprint LQFP100B (TSQFP, 100-Leads, Body 13.00x13.00mm, Pitch 0.50mm, IPC Medium Density)
pins: 1 PE2 (io), 2 PE3 (io), 3 PE4 (io), 4 PE5 (io), 5 PE6 (io), 6 VBAT (power), 7 PC13 (io), 8 PC14/OSC32_IN(PC14) (io), 9 PC15/OSC32_OUT(PC15) (io), 10 Vss (power), 11 Vdd (power), 12 PH0/OSC_IN(PH0) (io), 13 PH1/OSC_OUT(PH1) (io), 14 NRST (io), 15 PC0 (io), 16 PC1 (io), 17 PC2 (io), 18 PC3 (io), 19 Vdd (power), 20 Vssa (power), 21 Vref+ (power), 22 Vdda (power), 23 PA0/WKUP(PA0) (io), 24 PA1 (io), 25 PA2 (io), 26 PA3 (io), 27 Vss (power), 28 Vdd (io), 29 PA4 (io), 30 PA5 (io), 31 PA6 (io), 32 PA7 (io), 33 PC4 (io), 34 PC5 (io), 35 PB0 (io), 36 PB1 (io), 37 PB2/BOOT1(PB2) (io), 38 PE7 (io), 39 PE8 (io), 40 PE9 (io), 41 PE10 (io), 42 PE11 (io), 43 PE12 (io), 44 PE13 (io), 45 PE14 (io), 46 PE15 (io), 47 PB10 (io), 48 PB11 (io), 49 Vcap-1 (power), 50 Vdd (power), 51 PB12 (io), 52 PB13 (io), 53 PB14 (io), 54 PB15 (io), 55 PD8 (io), 56 PD9 (io), 57 PD10 (io), 58 PD11 (io), 59 PD12 (io), 60 PD13 (io), 61 PD14 (io), 62 PD15 (io), 63 PC6 (io), 64 PC7 (io), 65 PC8 (io), 66 PC9 (io), 67 PA8 (io), 68 PA9 (io), 69 PA10 (io), 70 PA11 (io), 71 PA12 (io), 72 PA13(JTMS-SWDIO) (io), 73 Vcap-2 (power), 74 Vss (power), 75 Vdd (power), 76 PA14(JTCK/SWCLK) (io), 77 PA15(JTDI) (io), 78 PC10 (io), 79 PC11 (io), 80 PC12 (io), 81 PD0 (io), 82 PD1 (io), 83 PD2 (io), 84 PD3 (io), 85 PD4 (io), 86 PD5 (io), 87 PD6 (io), 88 PD7 (io), 89 PB3(JTDO/TRACESWO) (io), 90 PB4(NJTRST) (io), 91 PB5 (io), 92 PB6 (io), 93 PB7 (io), 94 BOOT0 (io), 95 PB8 (io), 96 PB9 (io), 97 PE0 (io), 98 PE1 (io), 99 Vss (power), 100 Vdd (power)

## STMPS2141STR
designator U?
Manufacturer: STMicroelectronics; Other Related Documents: STMPS2141 View All Specifications; Switch Type: General Purpose; Number of Outputs: 1; Ratio - Input:Output: 1:1; Output Configuration: High Side; Output Type: N-Channel; Interface: On/Off; Voltage - Load: 2.7 V ~ 5.5 V; Voltage - Supply (Vcc/Vdd): Not Required; Current - Output (Max): 500mA; Rds On (Typ): 90 mOhm; Input Type: Non-Inverting; Fault Protection: Current Limiting (Fixed), Over Temperature, Reverse Current, UVLO; Other Names: 497-6933-2 / STMPS2141STR-ND; Supplier 1: Digikey; Manufacturer Part Number: STMPS2141STR; Stock 1: 9000; Pricing 1: 3000=0.2093, 6000=0.1958, 15000=0.1823, 30000=0.1728 (USD); Standard Package: 3,000; Category: Integrated Circuits (ICs); Family: PMIC - Power Distribution Switches, Load Drivers; Packaging: Tape & Reel (TR); Operating Temperature: -40°C ~ 125°C (TJ); Package / Case: SC-74A, SOT-753; Supplier Device Package: SOT-23-5; Online Catalog: General Purpose; ComponentLink1URL: https://datasheet.ciiva.com/4923/cd00167470-4923447.pdf; ComponentLink1Description: https://datasheet.ciiva.com/4923/cd00167470-4923447.pdf; ComponentLink2URL: https://datasheet.ciiva.com/1962/cd00167470-1962472.pdf; ComponentLink2Description: https://datasheet.ciiva.com/1962/cd00167470-1962472.pdf; ComponentLink3URL: https://datasheet.ciiva.com/1962/cd00167470-1962473.pdf; ComponentLink3Description: https://datasheet.ciiva.com/1962/cd00167470-1962473.pdf; ComponentLink4URL: https://datasheet.ciiva.com/1962/cd00167470-1962474.pdf; ComponentLink4Description: https://datasheet.ciiva.com/1962/cd00167470-1962474.pdf; ComponentLink5URL: https://datasheet.ciiva.com/16491/cd00167470-16491245.pdf; ComponentLink5Description: https://datasheet.ciiva.com/16491/cd00167470-16491245.pdf; ComponentLink6URL: https://datasheet.ciiva.com/15108/getdatasheetpartid-160072-15108990.pdf; ComponentLink6Description: https://datasheet.ciiva.com/15108/getdatasheetpartid-160072-15108990.pdf
footprint S5 (SOT-23/SC-74A; 5 Leads; Body 3.1 x 3 mm, inc. leads (LxW max))
pins: 1 OUT, 2 GND, 3 FAULT, 4 EN, 5 IN

## USB MICRO
designator CN?, comment Micro USB
footprint USB MICRO
pins: 0 SHELL, 1 VCC, 2 D-, 3 D+, 4 ID, 5 GND

## USB MINI TYPE B
designator CN?  Supplier Part Number 1: 151-1206-1-ND
Manufacturer: Edac; Manufacturer Part Number: 690-005-299-043; Number of Ports: 1; Pitch: 0.8 mm; Body Orientation: Right Angle; Number of Contacts: 5; Gender: RCP; Supplier 1: Edac; Stock 1: 57692; Pricing 1: 1=0.54, 10=0.51, 25=0.4592, 50=0.408, 100=0.391, 250=0.357, 500=0.34 (USD); Part No: 690-005-299-043; RoHS: Yes; Type: Mini USB Type B; Termination Method: Solder; Color: Black; Maximum Voltage Rating: N/A; Contact Material: Phosphor Bronze; Number of Terminals: 5; Packaging: N/A; Contact Plating: Gold; Maximum Current Rating: N/A; Housing Material: Thermoplastic; Mounting: Surface Mount; Operating Temperature: N/A; Dimension: 10.25 x 9.3 x 3.93mm; ComponentLink1URL: https://datasheet.ciiva.com/30246/690-005-299-043-30246515.pdf; ComponentLink1Description: https://datasheet.ciiva.com/30246/690-005-299-043-30246515.pdf; ComponentLink2URL: https://datasheet.ciiva.com/29660/690-005-299-043-29660027.pdf; ComponentLink2Description: https://datasheet.ciiva.com/29660/690-005-299-043-29660027.pdf; ComponentLink3URL: https://datasheet.ciiva.com/29660/690-005-299-043-29660028.pdf; ComponentLink3Description: https://datasheet.ciiva.com/29660/690-005-299-043-29660028.pdf; ComponentLink4URL: https://datasheet.ciiva.com/29660/690-005-299-043-29660029.pdf; ComponentLink4Description: https://datasheet.ciiva.com/29660/690-005-299-043-29660029.pdf
footprint USB MINI TYPE B
pins: 0 SHELL, 1 VCC, 2 D-, 3 D+, 4 ID, 5 GND

## XTAL
designator Y?, comment 8M
Crystal Oscillator; Published: 8-Jun-2000; LatestRevisionDate: 17-Jul-2002; LatestRevisionNote: Re-released for DXP Platform.; PackageReference: R38; Publisher: Altium Limited; PackageDescription: Crystal, Thru-Hole; 2 Leads; Body 3.1 x 8.2 mm (Dia.xH)
simulation model XTAL (Spice Subcircuit)
footprint HC-49S
pins: 1 OSC1, 2 OSC2